# Altium schematic symbol library SCH - VIDEO - TI TVP5150AM1PBS.Schlib: 1 symbol
Pins are listed as number, name and electrical type; pins without a type are passive.

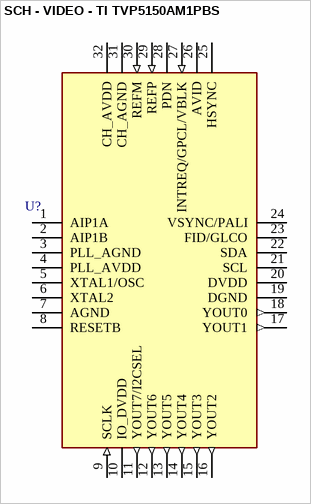
[diagram p0: symbol SCH - VIDEO - TI TVP5150AM1PBS]

## SCH - VIDEO - TI TVP5150AM1PBS
designator U?
footprint QFP50P700X700X120-32N
pins: 1 AIP1A, 2 AIP1B, 3 PLL_AGND (power), 4 PLL_AVDD (power), 5 XTAL1/OSC, 6 XTAL2, 7 AGND (power), 8 RESETB, 9 SCLK (in), 10 IO_DVDD (power), 11 YOUT7/I2CSEL (out), 12 YOUT6 (out), 13 YOUT5 (out), 14 YOUT4 (out), 15 YOUT3 (out), 16 YOUT2 (out), 17 YOUT1 (out), 18 YOUT0 (out), 19 DGND (power), 20 DVDD (power), 21 SCL, 22 SDA, 23 FID/GLCO, 24 VSYNC/PALI, 25 HSYNC, 26 AVID, 27 INTREQ/GPCL/VBLK (in), 28 PDN, 29 REFP (in), 30 REFM (in), 31 CH_AGND (power), 32 CH_AVDD (power)